# Altium footprint library PDB_Footprints_v1.8.PcbLib: 17 footprints (part 2 of 2)
Each footprint in its own frame and in the unit in brackets; x right, y up, seen from the top. Pads: shape width x height; smd on the part's side, far side on the other; paste and mask are expansions set on the pad; w line width, h text height; cw(c..) or ccw(c..) is an arc to the next point about the centre after c.
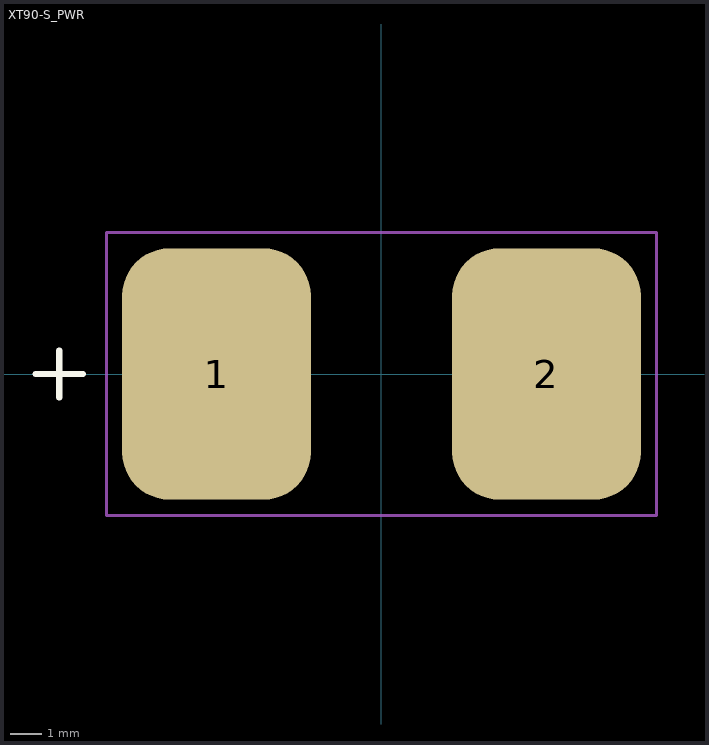
[diagram p1: the footprint, top view; thin cyan lines are the x and y axes]

## XT90-S_PWR [mm]
pads (2):
  rrect50% 6x8 smd: 1(-5.25,0) 2(5.25,0)
Top Overlay:
  lines w0.2: -11,0 -9.5,0 ; -10.25,-0.75 -10.25,0.75
  text ".Designator" at -7.768,4.759 h1
Top Courtyard:
  lines w0.1: -8.75,-4.5 8.75,-4.5 8.75,4.5 -8.75,4.5 -8.75,-4.5